# EAGLE library part HEADER-10P-2R (library deiring-components)
Header 10 Pin 2 Row
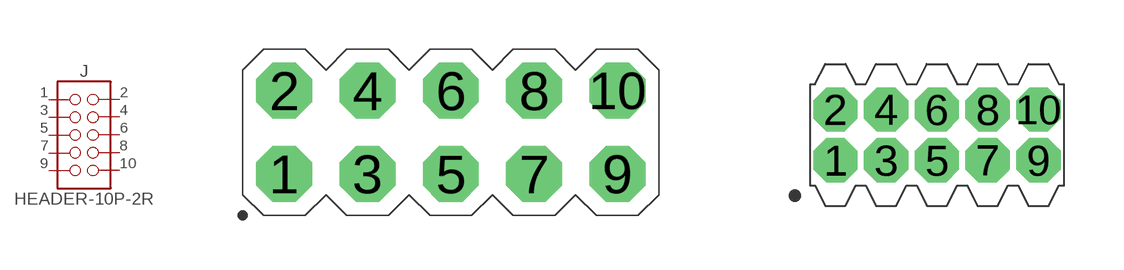
[diagram p11: symbol with the pads of PZ254V-12-10P; footprints PZ254V-12-10P, 20021111-00010T4LF]

Designator prefix J

## HEADER-10P-2R-PZ254V-12-10P (LCSC: C492422; MF: XFCN; MPN: PZ254V-12-10P; VALUE: 10P)  [PZ254V-12-10P]
1  01  pas
2  02  pas
3  03  pas
4  04  pas
5  05  pas
6  06  pas
7  07  pas
8  08  pas
9  09  pas
10  10  pas

## HEADER-10P-2R-20021111-00010T4LF (LCSC: C239059; MF: Amphenol ICC; MPN: 20021111-00010T4LF; VALUE: 10P)  [20021111-00010T4LF]
Pads as for PZ254V-12-10P

## Footprint PZ254V-12-10P (pad centres in mm)
drill 1 pad 1.7 octagon: 1 -5.08,-1.27; 2 -5.08,1.27; 3 -2.54,-1.27; 4 -2.54,1.27; 5 0,-1.27; 6 0,1.27; 7 2.54,-1.27; 8 2.54,1.27; 9 5.08,-1.27; 10 5.08,1.27

## Footprint 20021111-00010T4LF (pad centres in mm)
drill 0.6 pad 1 octagon: 1 -2.54,-0.635; 2 -2.54,0.635; 3 -1.27,-0.635; 4 -1.27,0.635; 5 0,-0.635; 6 0,0.635; 7 1.27,-0.635; 8 1.27,0.635; 9 2.54,-0.635; 10 2.54,0.635